# Altium footprint library SamacSys.PcbLib: 33 footprints (part 2 of 3)
Each footprint in its own frame and in the unit in brackets; x right, y up, seen from the top. Pads: shape width x height; smd on the part's side, far side on the other; paste and mask are expansions set on the pad; w line width, h text height; cw(c..) or ccw(c..) is an arc to the next point about the centre after c.
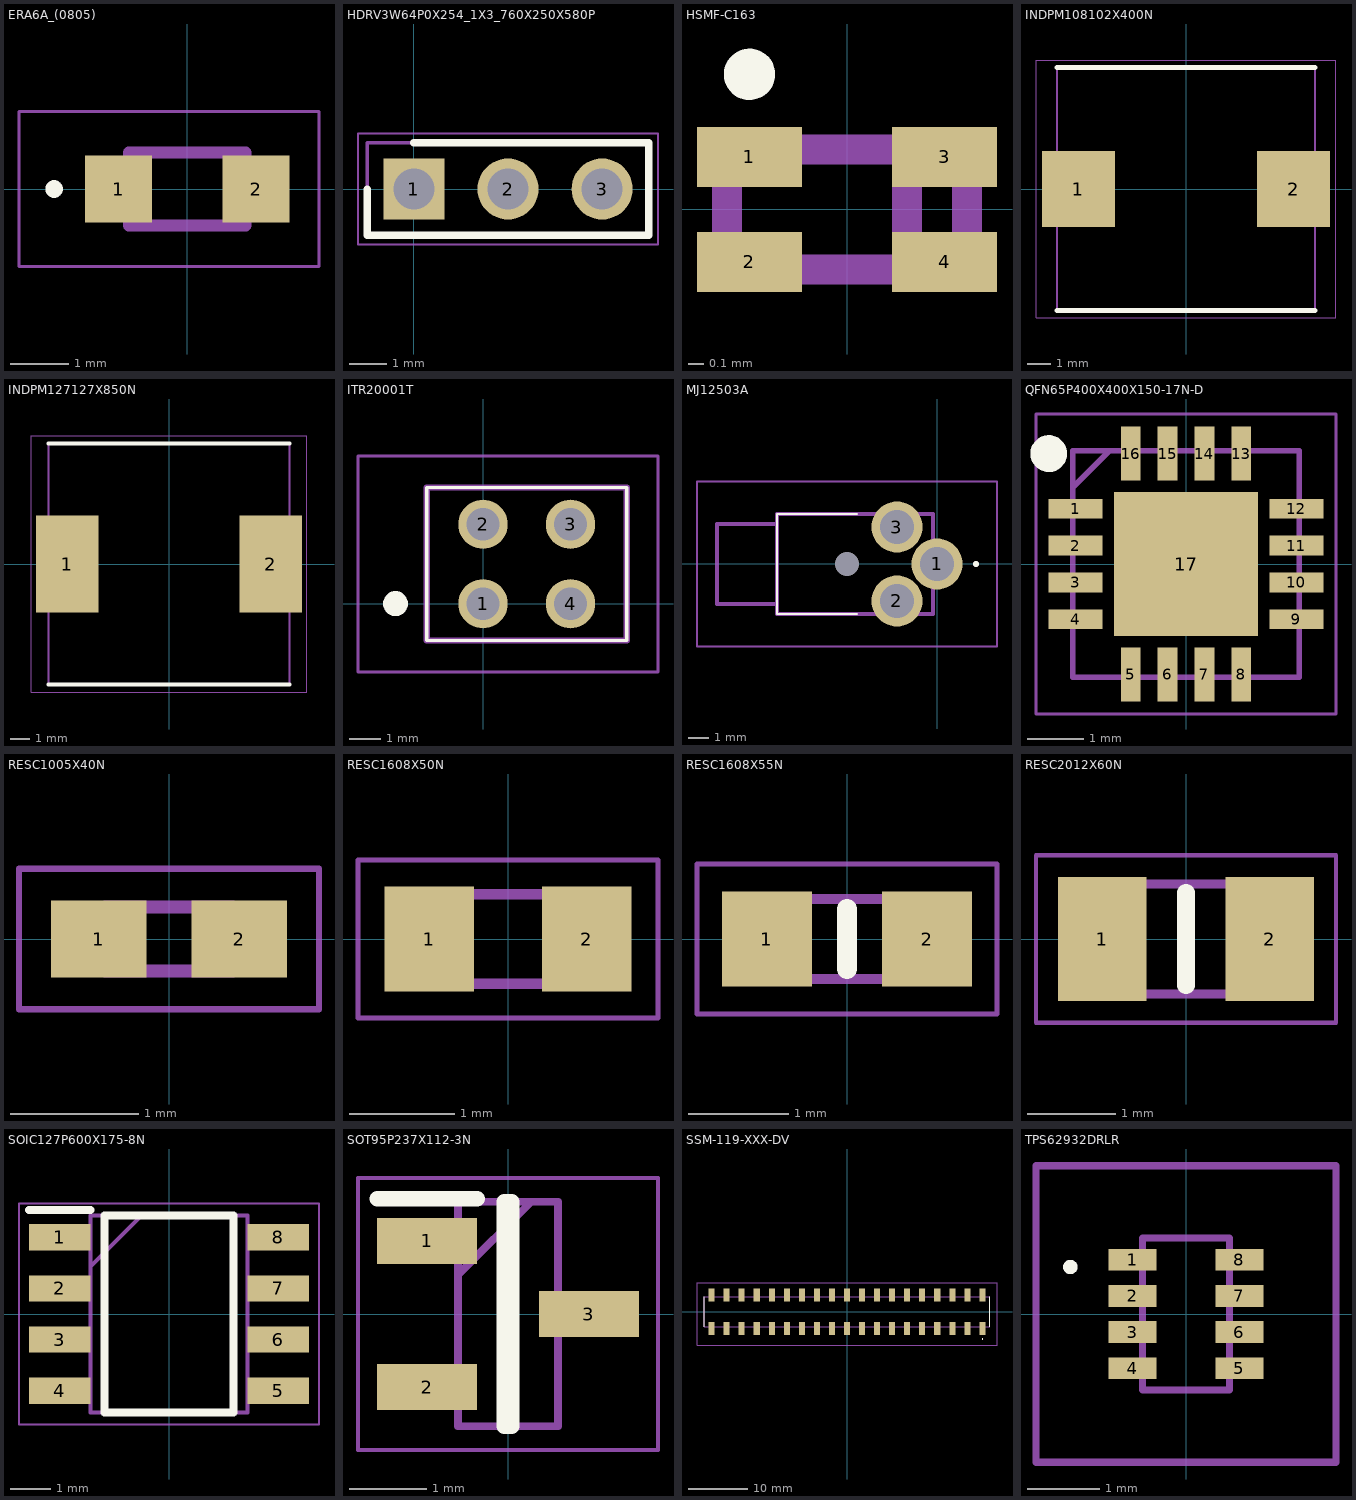
[diagram p1: the footprints below, top view; thin cyan lines are the x and y axes]

## ERA6A_(0805) [mm]
pads (2):
  rect 1.15x1.15 smd: 1(-1.175,0) 2(1.175,0)
Top Overlay:
  circle w0.2: c-2.275,0 r0.05
Mechanical 13:
  lines w0.2: -1,-0.625 1,-0.625 1,0.625 -1,0.625 -1,-0.625
Mechanical 15:
  lines w0.05: -2.875,-1.325 2.25,-1.325 2.25,1.325 -2.875,1.325 -2.875,-1.325
3D body "ERA-6AEB6192V.stp": height 0.5, standoff 0, extent -1,-0.625 1,0.625

## HDRV3W64P0X254_1X3_760X250X580P [mm]
pads (3):
  rect 1.65x1.65 hole 1.1: 1(0,0)
  round 1.65 hole 1.1: 2(2.54,0) 3(5.08,0)
Top Overlay:
  lines w0.2: -1.26,0 -1.26,-1.25 6.34,-1.25 6.34,1.25 0,1.25
Mechanical 13:
  lines w0.1: -1.26,-1.25 6.34,-1.25 6.34,1.25 -1.26,1.25 -1.26,-1.25
Mechanical 15:
  lines w0.05: -1.51,-1.5 6.59,-1.5 6.59,1.5 -1.51,1.5 -1.51,-1.5
3D body "XJ8B-0311.stp": height 5.8, standoff -2.8, extent -1.26,-1.25 6.34,1.25

## HSMF-C163 [mm]
pads (4):
  rect 0.7x0.4 smd: 1(-0.65,0.35) 2(-0.65,-0.35) 3(0.65,0.35) 4(0.65,-0.35)
Top Overlay:
  circle w0.2: c-0.65,0.9 r0.071
Mechanical 13:
  lines w0.2: 0.4,-0.4 0.4,0.4 ; -0.8,-0.4 -0.8,0.4 0.8,0.4 0.8,-0.4 -0.8,-0.4

## INDPM108102X400N [mm]
pads (2):
  rect 3.05x3.2 smd: 1(-4.5,0) 2(4.5,0)
Top Overlay:
  lines w0.2: -5.398,-5.08 5.398,-5.08 ; -5.398,5.08 5.398,5.08
Mechanical 13:
  lines w0.1: -5.398,-5.08 5.398,-5.08 5.398,5.08 -5.398,5.08 -5.398,-5.08
Mechanical 15:
  lines w0.05: -6.275,-5.394 6.275,-5.394 6.275,5.394 -6.275,5.394 -6.275,-5.394
3D body "IHLP4040DZER100M01.stp": height 3.88, standoff 0, extent -5.312,-5.171 5.31,5.045

## INDPM127127X850N [mm]
pads (2):
  rect 3.3x5.1 smd: 1(-5.35,0) 2(5.35,0)
Top Overlay:
  lines w0.2: -6.35,-6.35 6.35,-6.35 ; -6.35,6.35 6.35,6.35
Mechanical 13:
  lines w0.1: -6.35,-6.35 6.35,-6.35 6.35,6.35 -6.35,6.35 -6.35,-6.35
Mechanical 15:
  lines w0.05: -7.25,-6.75 7.25,-6.75 7.25,6.75 -7.25,6.75 -7.25,-6.75
3D body "SRR1208-100ML.stp": height 8.5, standoff 0, extent -6.35,-6.35 6.35,6.35

## ITR20001T [mm]
pads (4):
  round 1.575 hole 1.05: 1(0,0) 2(0,2.54) 3(2.8,2.54) 4(2.8,0)
Top Overlay:
  lines w0.1: -1.8,-1.18 4.6,-1.18 4.6,3.72 -1.8,3.72 -1.8,-1.18
  lines w0.4: -3,0 ccw(c-2.8,0) -2.6,0 ccw(c-2.8,0) -3,0
Mechanical 13:
  lines w0.2: -1.8,-1.18 4.6,-1.18 4.6,3.72 -1.8,3.72 -1.8,-1.18
Mechanical 15:
  lines w0.1: -4,-2.18 5.6,-2.18 5.6,4.72 -4,4.72 -4,-2.18
3D body "ITR-20001_T.stp": height 6.9, standoff -5, extent -1.8,-1.18 4.6,3.72

## MJ12503A [mm]
pads (4):
  round 2.55 hole 1.7: 1(0,0) 2(-2,-1.85) 3(-2,1.85)
  round 0.6 hole 1.2 unplated: MH1(-4.5,0)
Top Overlay:
  lines w0.1: -8,-2.5 -4,-2.5 -8,-2.5 ; -8,-2.5 -8,2.5 ; -8,-2.5 -8,2.5 ; -8,2.5 -4,2.5 -8,2.5
  lines w0.2: 1.9,0 ccw(c1.95,0) 2,0 ; 1.9,0 cw(c1.95,0) 2,0 ; 1.9,0 ccw(c1.95,0) 2,0
Mechanical 13:
  lines w0.2: -11,-2 -11,2 -8,2 -8,-2 -11,-2 ; -8,-2.5 -8,2.5 -0.2,2.5 -0.2,-2.5 -8,-2.5
Mechanical 15:
  lines w0.1: -12,-4.125 -12,4.125 3,4.125 3,-4.125 -12,-4.125
3D body "MJ1-2503A.stp": height 5.1, standoff -5, extent -11,-2.599 0.75,2.599

## QFN65P400X400X150-17N-D [mm]
pads (17):
  rect 0.95x0.35 smd: 1(-1.95,0.975) 2(-1.95,0.325) 3(-1.95,-0.325) 4(-1.95,-0.975) 9(1.95,-0.975) 10(1.95,-0.325) 11(1.95,0.325) 12(1.95,0.975)
  rect 0.35x0.95 smd: 5(-0.975,-1.95) 6(-0.325,-1.95) 7(0.325,-1.95) 8(0.975,-1.95) 13(0.975,1.95) 14(0.325,1.95) 15(-0.325,1.95) 16(-0.975,1.95)
  rect 2.55x2.55 smd: 17(0,0)
Top Overlay:
  circle w0.325: c-2.425,1.95 r0.162
Mechanical 13:
  lines w0.1: -2,1.35 -1.35,2 ; -2,-2 -2,2 2,2 2,-2 -2,-2
Mechanical 15:
  lines w0.05: -2.65,-2.65 -2.65,2.65 2.65,2.65 2.65,-2.65 -2.65,-2.65
3D body "ADXL335BCPZ-RL7.stp": height 1.5, standoff 0, extent -2.05,-2.05 2.05,2.05

## RESC1005X40N [mm]
pads (2):
  rect 0.75x0.6 smd: 1(-0.55,0) 2(0.55,0)
Mechanical 13:
  lines w0.1: -0.5,-0.25 -0.5,0.25 0.5,0.25 0.5,-0.25 -0.5,-0.25
Mechanical 15:
  lines w0.05: -1.175,-0.55 -1.175,0.55 1.175,0.55 1.175,-0.55 -1.175,-0.55
3D body "CRCW040230K9FKED.stp": height 0.4, standoff 0, extent -0.5,-0.25 0.5,0.25

## RESC1608X50N [mm]
pads (2):
  rect 0.85x1 smd: 1(-0.75,0) 2(0.75,0)
Mechanical 13:
  lines w0.1: -0.788,-0.425 -0.788,0.425 0.788,0.425 0.788,-0.425 -0.788,-0.425
Mechanical 15:
  lines w0.05: -1.425,-0.75 -1.425,0.75 1.425,0.75 1.425,-0.75 -1.425,-0.75
3D body "CRCW060361K9FKEA.stp": height 0.5, standoff 0, extent -0.787,-0.425 0.787,0.425

## RESC1608X55N [mm]
pads (2):
  rect 0.9x0.95 smd: 1(-0.8,0) 2(0.8,0)
Top Overlay:
  lines w0.2: 0,-0.3 0,0.3
Mechanical 13:
  lines w0.1: -0.8,-0.4 0.8,-0.4 0.8,0.4 -0.8,0.4 -0.8,-0.4
Mechanical 15:
  lines w0.05: -1.5,-0.75 1.5,-0.75 1.5,0.75 -1.5,0.75 -1.5,-0.75
3D body "CRCW060310K0FKEAC.stp": height 0.55, standoff 0, extent -0.8,-0.4 0.8,0.4

## RESC2012X60N [mm]
pads (2):
  rect 1x1.4 smd: 1(-0.95,0) 2(0.95,0)
Top Overlay:
  lines w0.2: 0,-0.525 0,0.525
Mechanical 13:
  lines w0.1: -1,-0.625 1,-0.625 1,0.625 -1,0.625 -1,-0.625
Mechanical 15:
  lines w0.05: -1.7,-0.95 -1.7,0.95 1.7,0.95 1.7,-0.95 -1.7,-0.95
3D body "CR0805-FX-1200ELF.stp": height 0.5, standoff 0, extent -1,-0.625 1,0.625

## SOIC127P600X175-8N [mm]
pads (8):
  rect 1.525x0.65 smd: 1(-2.712,1.905) 2(-2.712,0.635) 3(-2.712,-0.635) 4(-2.712,-1.905) 5(2.712,-1.905) 6(2.712,-0.635) 7(2.712,0.635) 8(2.712,1.905)
Top Overlay:
  lines w0.2: -3.475,2.58 -1.95,2.58 ; -1.6,-2.45 1.6,-2.45 1.6,2.45 -1.6,2.45 -1.6,-2.45
Mechanical 13:
  lines w0.1: -1.95,1.18 -0.68,2.45 ; -1.95,-2.45 1.95,-2.45 1.95,2.45 -1.95,2.45 -1.95,-2.45
Mechanical 15:
  lines w0.05: -3.725,-2.75 3.725,-2.75 3.725,2.75 -3.725,2.75 -3.725,-2.75
3D body "NE555DR.stp": height 1.75, standoff 0, extent -3,-2.45 3,2.45

## SOT95P237X112-3N [mm]
pads (3):
  rect 1.3x0.6 smd: 1(-1.05,0.95) 2(-1.05,-0.95) 3(1.05,0)
Top Overlay:
  lines w0.2: -1.7,1.5 -0.4,1.5 ; -0.05,-1.46 0.05,-1.46 0.05,1.46 -0.05,1.46 -0.05,-1.46
Mechanical 13:
  lines w0.1: -0.65,0.51 0.3,1.46 ; -0.65,-1.46 0.65,-1.46 0.65,1.46 -0.65,1.46 -0.65,-1.46
Mechanical 15:
  lines w0.05: -1.95,-1.77 1.95,-1.77 1.95,1.77 -1.95,1.77 -1.95,-1.77
3D body "IRLML6344TRPBF.stp": height 1.12, standoff 0, extent -1.185,-1.46 1.185,1.46

## SSM-119-XXX-DV [mm]
pads (38):
  rect 1.02x2.22 smd: 1(22.86,-2.825) 2(22.86,2.825) 3(20.32,-2.825) 4(20.32,2.825) 5(17.78,-2.825) 6(17.78,2.825) 7(15.24,-2.825) 8(15.24,2.825) 9(12.7,-2.825) 10(12.7,2.825) 11(10.16,-2.825) 12(10.16,2.825) 13(7.62,-2.825) 14(7.62,2.825) 15(5.08,-2.825) 16(5.08,2.825) 17(2.54,-2.825) 18(2.54,2.825) 19(0,-2.825) 20(0,2.825) 21(-2.54,-2.825) 22(-2.54,2.825) 23(-5.08,-2.825) 24(-5.08,2.825) 25(-7.62,-2.825) 26(-7.62,2.825) 27(-10.16,-2.825) 28(-10.16,2.825) 29(-12.7,-2.825) 30(-12.7,2.825) 31(-15.24,-2.825) 32(-15.24,2.825) 33(-17.78,-2.825) 34(-17.78,2.825) 35(-20.32,-2.825) 36(-20.32,2.825) 37(-22.86,-2.825) 38(-22.86,2.825)
Top Overlay:
  circle w0.2: c22.86,-4.575 r0.05
  lines w0.1: -24.13,-2.54 -24.13,2.54 ; 24.13,-2.54 24.13,2.54
Mechanical 13:
  lines w0.2: -24.13,-2.54 24.13,-2.54 24.13,2.54 -24.13,2.54 -24.13,-2.54
Mechanical 15:
  lines w0.05: -25.33,-5.675 25.33,-5.675 25.33,4.935 -25.33,4.935 -25.33,-5.675

## TPS62932DRLR [mm]
pads (8):
  rect 0.67x0.3 smd: 1(-0.74,0.75) 2(-0.74,0.25) 3(-0.74,-0.25) 4(-0.74,-0.75) 5(0.74,-0.75) 6(0.74,-0.25) 7(0.74,0.25) 8(0.74,0.75)
Top Overlay:
  lines w0.1: -1.6,0.6 cw(c-1.6,0.65) -1.6,0.7 cw(c-1.6,0.65) -1.6,0.6
Mechanical 13:
  lines w0.1: -0.6,-1.05 -0.6,1.05 0.6,1.05 0.6,-1.05 -0.6,-1.05
Mechanical 15:
  lines w0.1: -2.075,-2.05 -2.075,2.05 2.075,2.05 2.075,-2.05 -2.075,-2.05
3D body "TPS62932DRLR.stp": height 0.7, standoff 0, extent -0.6,-1.05 0.6,1.05